# Altium schematic symbol library 红外感应开关电路设计.SCHLIB: 12 symbols
Pins are listed as number, name and electrical type; pins without a type are passive.

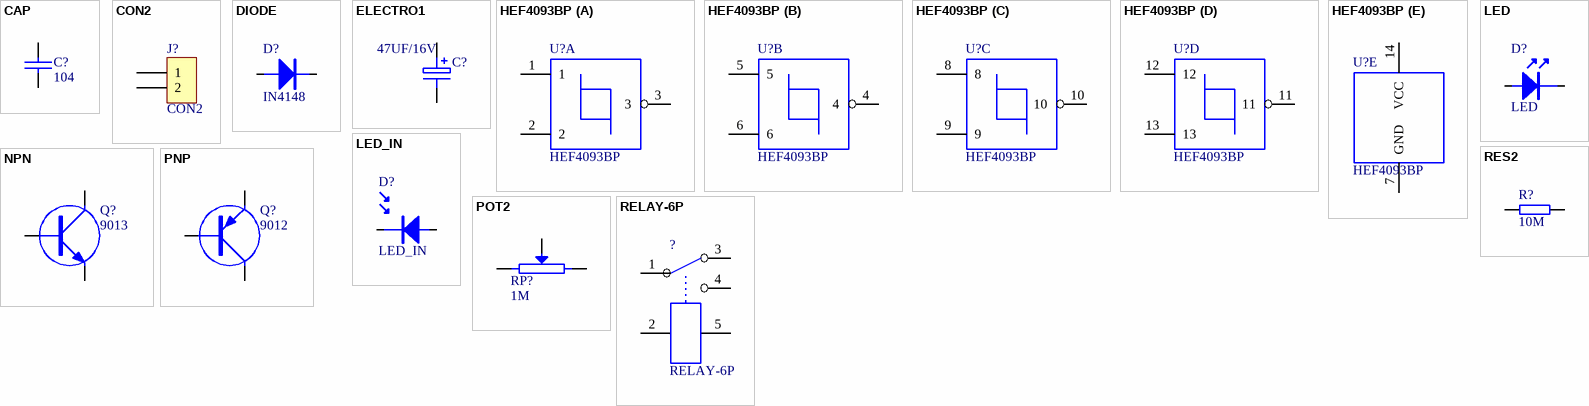
[diagram p0: symbols CAP to RES2]

## CAP
designator C?, comment 104
Capacitor
footprint RAD0.1
footprint RAD0.2
footprint R/C0805
footprint R/C1206
footprint R/C0805
pins: 1, 2

## CON2
designator J?
Connector
footprint SIP2
footprint 5.08-S201
pins: 1, 2

## DIODE
designator D?, comment IN4148
footprint DIODE0.4
footprint DIODE0.3
footprint DIODE0.2
footprint D190
footprint D1206
pins: A, K

## ELECTRO1
designator C?, comment 47UF/16V
Electrolytic Capacitor
footprint RB.1/.2
footprint RB.2/.4
pins: 1, 2

## HEF4093BP
designator U?
footprint DIP14
part A pins: 1, 2, 3
part B pins: 4, 5, 6
part C pins: 8, 9, 10
part D pins: 11, 12, 13
part E pins: 7 GND, 14 VCC

## LED
designator D?
footprint LED
footprint D0805
pins: A, K

## LED_IN
designator D?
footprint LED
footprint LED-IN
pins: A, K

## NPN
designator Q?, comment 9013
footprint TO-92C
footprint TO-92D
footprint TO-39A
pins: B, C, E

## PNP
designator Q?, comment 9012
footprint TO-92C
pins: B, C, E

## POT2
designator RP?, comment 1M
Potentiometer
footprint VR9
footprint VR7
footprint RV09
footprint VR1
pins: 1, 2, 3

## RELAY-6P
designator ?
footprint JD3
footprint JD3
pins: 1, 2, 3, 4, 5, 6

## RES2
designator R?, comment 10M
footprint AXIAL0.3
footprint AXIAL0.4
footprint AXIAL0.1
footprint AXIAL1.0
footprint R/C0805
footprint R/C0805
pins: 1, 2